# Altium schematic symbol library FM93C66N.Schlib: 1 symbol
Pins are listed as number, name and electrical type; pins without a type are passive.

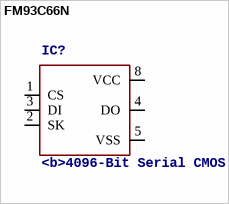
[diagram p0: symbol FM93C66N]

## FM93C66N
designator IC?, comment <b>4096-Bit Serial CMOS EEPROM</b> (MICROWIRE TM Synchronous Bus)<p> / Source: www.fairchildsemi.com
footprint DIL08
pins: 1 CS, 2 SK, 3 DI, 4 DO (hiz), 5 VSS (power), 8 VCC (power)